# Altium integrated library L7805CV.IntLib: 1 symbol
Pins are listed as number, name and electrical type; pins without a type are passive.

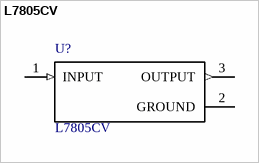
[diagram p0: symbol L7805CV]

## L7805CV
designator U?
Standard Regulator Pos 5V 1.5A 3-Pin_3+Tab_ TO-220 Standard Regulator Pos 5V 1.5A 3-Pin_3+Tab_ TO-220; MF: STMicroelectronics; MP: L7805CV; Package: TO-220 STMicroelectronics; SnapEDA_Link: https://www.snapeda.com/parts/L7805CV/STMicroelectronics/view-part/?ref=snap; Digi-Key_Part_Number: 497-1443-5-ND; Digi-Key_Purchase_URL: https://www.digikey.com/product-detail/en/stmicroelectronics/L7805CV/497-1443-5-ND/585964?utm_source=snapeda&utm_medium=aggregator&utm_campaign=symbol; Value: *
footprint *TO255P1040X460X1968-3
pins: 1 INPUT (in), 2 GROUND (power), 3 OUTPUT (out)